# EAGLE library part SD8942 (library myParts)
step-down
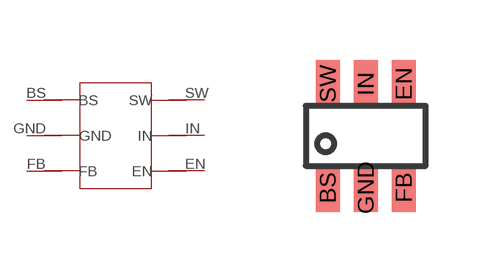
[diagram p0: symbol with the pads of SD8942; footprint SD8942]

Designator prefix -

## SD8942  [SD8942]
BS  BS
EN  EN
FB  FB
GND  GND
IN  IN
SW  SW

## Footprint SD8942 (pad centres in mm)
smd 0.6 x 1.2: BS -0.95,-1.3; EN 0.95,1.3; FB 0.95,-1.3; GND 0,-1.3; IN 0,1.3; SW -0.95,1.3